# EAGLE library part DISPLAY (library me433)
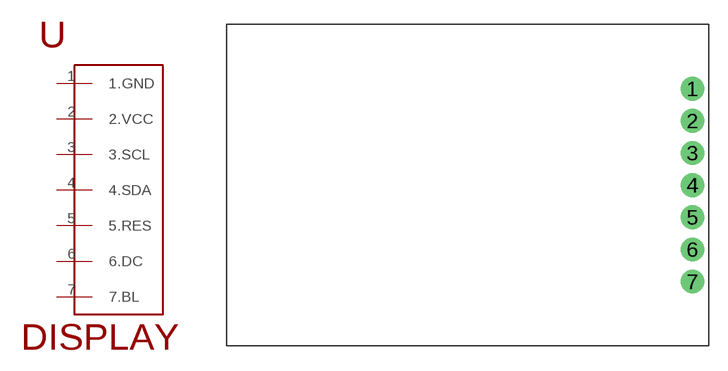
[diagram p10: symbol with the pads of DISPLAY; footprint DISPLAY]

Designator prefix -

## DISPLAY  [DISPLAY]
1  1.GND
2  2.VCC
3  3.SCL
4  4.SDA
5  5.RES
6  6.DC
7  7.BL

## Footprint DISPLAY (pad centres in mm)
drill 1.016 pad 1.88: 1 -1.27,7.62; 2 -1.27,5.08; 3 -1.27,2.54; 4 -1.27,0; 5 -1.27,-2.54; 6 -1.27,-5.08; 7 -1.27,-7.62